# EAGLE library part XETHRU_X2 (library XETHRU_X2)
THE EXPOSED DIE PAD ON THE BOTTOM OUGHT TO BE CONNECTED GNDD- WHICH IS A DIGITAL GROUND. READ THE DATA SHEET FOR FURTHER INFO.
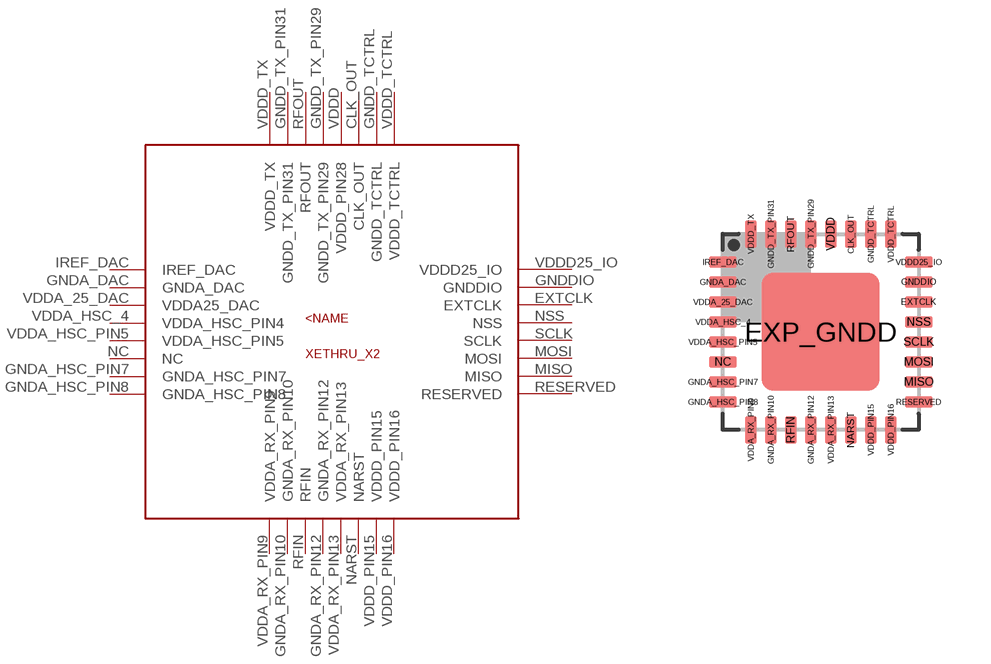
[diagram p0: symbol with the pads of QFN32; footprint QFN32]

Designator prefix -

## XETHRU_X2 (XETHRUCHIP: EV1.0)  [QFN32]
CLK_OUT  CLK_OUT
EXTCLK  EXTCLK
GNDA_DAC  GNDA_DAC
GNDA_HSC_PIN7  GNDA_HSC_PIN7
GNDA_HSC_PIN8  GNDA_HSC_PIN8
GNDA_RX_PIN10  GNDA_RX_PIN10
GNDA_RX_PIN12  GNDA_RX_PIN12
GNDD_TCTRL  GNDD_TCTRL
GNDD_TX_PIN29  GNDD_TX_PIN29
GNDD_TX_PIN31  GNDD_TX_PIN31
GNDDIO  GNDDIO
IREF_DAC  IREF_DAC
MISO  MISO
MOSI  MOSI
NARST  NARST
NC  NC
NSS  NSS
RESERVED  RESERVED
RFIN  RFIN
RFOUT  RFOUT
SCLK  SCLK
VDDA_25_DAC  VDDA25_DAC
VDDA_HSC_4  VDDA_HSC_PIN4
VDDA_HSC_PIN5  VDDA_HSC_PIN5
VDDA_RX_PIN9  VDDA_RX_PIN9
VDDA_RX_PIN13  VDDA_RX_PIN13
VDDD  VDDD_PIN28
VDDD25_IO  VDDD25_IO
VDDD_PIN15  VDDD_PIN15
VDDD_PIN16  VDDD_PIN16
VDDD_TCTRL  VDDD_TCTRL
VDDD_TX  VDDD_TX

## Footprint QFN32 (pad centres in mm)
QFN 32 5 x 5 mm Source: www.qprox.com ... QT1106_-8IR0.07-16262.pdf
smd 0.3 x 0.7: CLK_OUT 0.75,2.45; GNDA_RX_PIN10 -1.25,-2.45; GNDA_RX_PIN12 -0.25,-2.45; GNDD_TCTRL 1.25,2.45; GNDD_TX_PIN29 -0.25,2.45; GNDD_TX_PIN31 -1.25,2.45; NARST 0.75,-2.45; RFIN -0.75,-2.45; RFOUT -0.75,2.45; VDDA_RX_PIN9 -1.75,-2.45; VDDA_RX_PIN13 0.25,-2.45; VDDD 0.25,2.45; VDDD_PIN15 1.25,-2.45; VDDD_PIN16 1.75,-2.45; VDDD_TCTRL 1.75,2.45; VDDD_TX -1.75,2.45
smd 2.95 x 2.95: EXP_GNDD 0,0
smd 0.7 x 0.3: EXTCLK 2.45,0.75; GNDA_DAC -2.45,1.25; GNDA_HSC_PIN7 -2.45,-1.25; GNDA_HSC_PIN8 -2.45,-1.75; GNDDIO 2.45,1.25; IREF_DAC -2.45,1.75; MISO 2.45,-1.25; MOSI 2.45,-0.75; NC -2.45,-0.75; NSS 2.45,0.25; RESERVED 2.45,-1.75; SCLK 2.45,-0.25; VDDA_25_DAC -2.45,0.75; VDDA_HSC_4 -2.45,0.25; VDDA_HSC_PIN5 -2.45,-0.25; VDDD25_IO 2.45,1.75